# Altium schematic symbol library Connector BNC Series.SchLib: 2 symbols
Pins are listed as number, name and electrical type; pins without a type are passive.

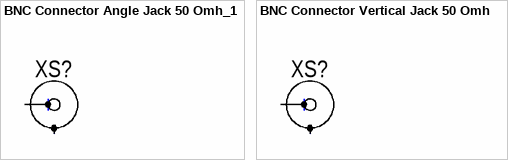
[diagram p0: symbols BNC Connector Angle Jack 50 Omh_1 to BNC Connector Vertical Jack 50 Omh]

## BNC Connector Angle Jack 50 Omh_1
designator XS?, comment BNC Angle Jack 50 Omh  (value not drawn)
BNC Connector Angle Jack 50 Omh; ComponentLink1Description: BNC Connector Vertical Jack 50 Omh; ComponentLink1URL: https://www.te.com/commerce/DocumentDelivery/DDEController?Action=srchrtrv&DocNm=5227673&DocType=Customer+Drawing&DocLang=English; ComponentLink2Description: BNC Connector Angle Jack 50 Omh; ComponentLink2URL: https://www.te.com/commerce/DocumentDelivery/DDEController?Action=srchrtrv&DocNm=1634612&DocType=Customer+Drawing&DocLang=English
footprint BNC Angle (BNC Angle Jack PCB mount)
pins: 1 Core "Cenral Wire Coaxial Cable", 2 Shield "Cenral Wire Coaxial Cable"

## BNC Connector Vertical Jack 50 Omh
designator XS?, comment BNC Vertical Jack 50 Omh  (value not drawn)
BNC Connector Vertical Jack 50 Omh; ComponentLink1Description: BNC Connector Vertical Jack 50 Omh; ComponentLink1URL: https://www.te.com/commerce/DocumentDelivery/DDEController?Action=srchrtrv&DocNm=5227673&DocType=Customer+Drawing&DocLang=English
footprint BNC Vertical (BNC Vertical Jack PCB mount)
pins: 1 Core "Cenral Wire Coaxial Cable", 2 Shield "Cenral Wire Coaxial Cable"